# Altium schematic symbol library MC14490P.SchLib: 6 symbols
Pins are listed as number, name and electrical type; pins without a type are passive.

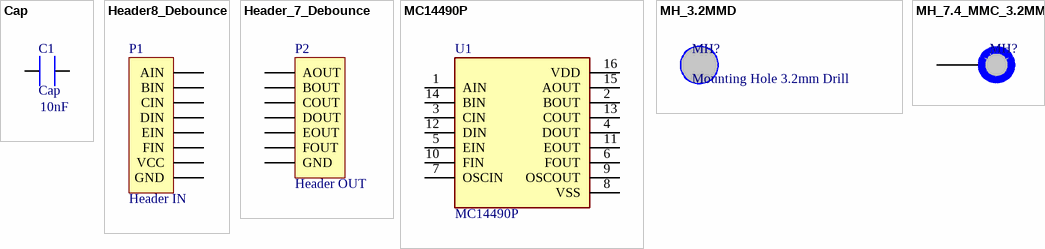
[diagram p0: symbols Cap to MH_7.4_MMC_3.2MMD]

## Cap
designator C1  value 10nF
Capacitor; Published: 8-Jun-2000; LatestRevisionDate: 17-Jul-2002; LatestRevisionNote: Re-released for DXP Platform.; PackageReference: RAD-0.3; Publisher: Altium Limited; PackageDescription: Radial Cap, Thru-Hole; 2 Leads; 0.3 in Pin Spacing
footprint RAD-0.3 (Radial Cap, Thru-Hole; 2 Leads; 0.3 in Pin Spacing)
simulation model CAP (Capacitor)
signal-integrity model Cap
pins: 1, 2

## Header8_Debounce
designator P1, comment Header IN
Header, 8-Pin debounce input; LatestRevisionDate: 17-Jul-2002; LatestRevisionNote: Re-released for DXP Platform.; Publisher: Altium Limited
footprint HDR1X8 (Connector; Header; 8 Position)
signal-integrity model Connector
pins: 1 GND, 2 VCC, 3 FIN, 4 EIN, 5 DIN, 6 CIN, 7 BIN, 8 AIN

## Header_7_Debounce
designator P2, comment Header OUT
Header, 7-Pin debounce output; LatestRevisionDate: 17-Jul-2002; LatestRevisionNote: Re-released for DXP Platform.; Publisher: Altium Limited
footprint HDR1X7 (Connector; Header; 7 Position)
signal-integrity model Connector
pins: 1 GND, 2 FOUT, 3 EOUT, 4 DOUT, 5 COUT, 6 BOUT, 7 AOUT

## MC14490P
designator U1
Contact Bounce Eliminator IC 16-DIP; MF: ON Semiconductor; Value: *; Availability: Unavailable; Package: DIP-16 ON Semiconductor; Price: None; SnapEDA_Link: https://www.snapeda.com/parts/MC14490P/ON%20Semiconductor/view-part/4220489/?ref=snap; MP: MC14490P
footprint DIP762W46P254L1918H444Q16P
pins: 1 AIN, 2 BOUT, 3 CIN, 4 DOUT, 5 EIN, 6 FOUT, 7 OSCIN, 8 VSS (power), 9 OSCOUT, 10 FIN, 11 EOUT, 12 DIN, 13 COUT, 14 BIN, 15 AOUT, 16 VDD (power)

## MH_3.2MMD
designator MH?, comment Mounting Hole 3.2mm Drill  (no BOM)
footprint MH_3.2MMD

## MH_7.4_MMC_3.2MMD
designator MH?, comment Mounting Hole 7.4mm Diameter, 3.2mm Drill  (value not drawn)  (no BOM)
footprint MH_7.4_MMC_3.2MMD (Mounting Hole 7.4mm Diameter, 3.2mm Drill)
pins: 1